# Altium schematic symbol library SCH - FET - N-CH - NEXPERIA PXN MLPAK33 MOSFET N-CH.SCHLIB: 1 symbol
Pins are listed as number, name and electrical type; pins without a type are passive.

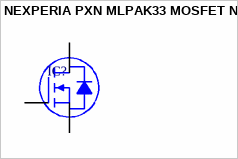
[diagram p0: symbol NEXPERIA PXN MLPAK33 MOSFET N-CH]

## NEXPERIA PXN MLPAK33 MOSFET N-CH
designator IC?
pins: D, G, S